# EAGLE library part WII-NUNCHUK (library WiiChuk)
Wii Nunchuk
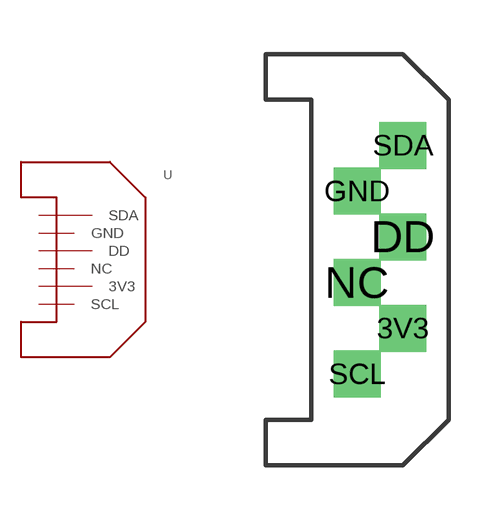
[diagram p0: symbol with the pads of WII-NUNCHUK; footprint WII-NUNCHUK]

Designator prefix -

## WII-NUNCHUK  [WII-NUNCHUK]
3V3  3V3
DD  DD
GND  GND
NC  NC
SCL  SCL
SDA  SDA

## Footprint WII-NUNCHUK (pad centres in mm)
Wii Nunchuk
drill 0.8 square: 3V3 1.27,-2.54; DD 1.27,0; GND 0,1.27; NC 0,-1.27; SCL 0,-3.81; SDA 1.27,2.54